# Altium integrated library TI_Logic_Universal_Bus_Function.IntLib: 113 symbols (part 1 of 5)
Pins are listed as number, name and electrical type; pins without a type are passive.

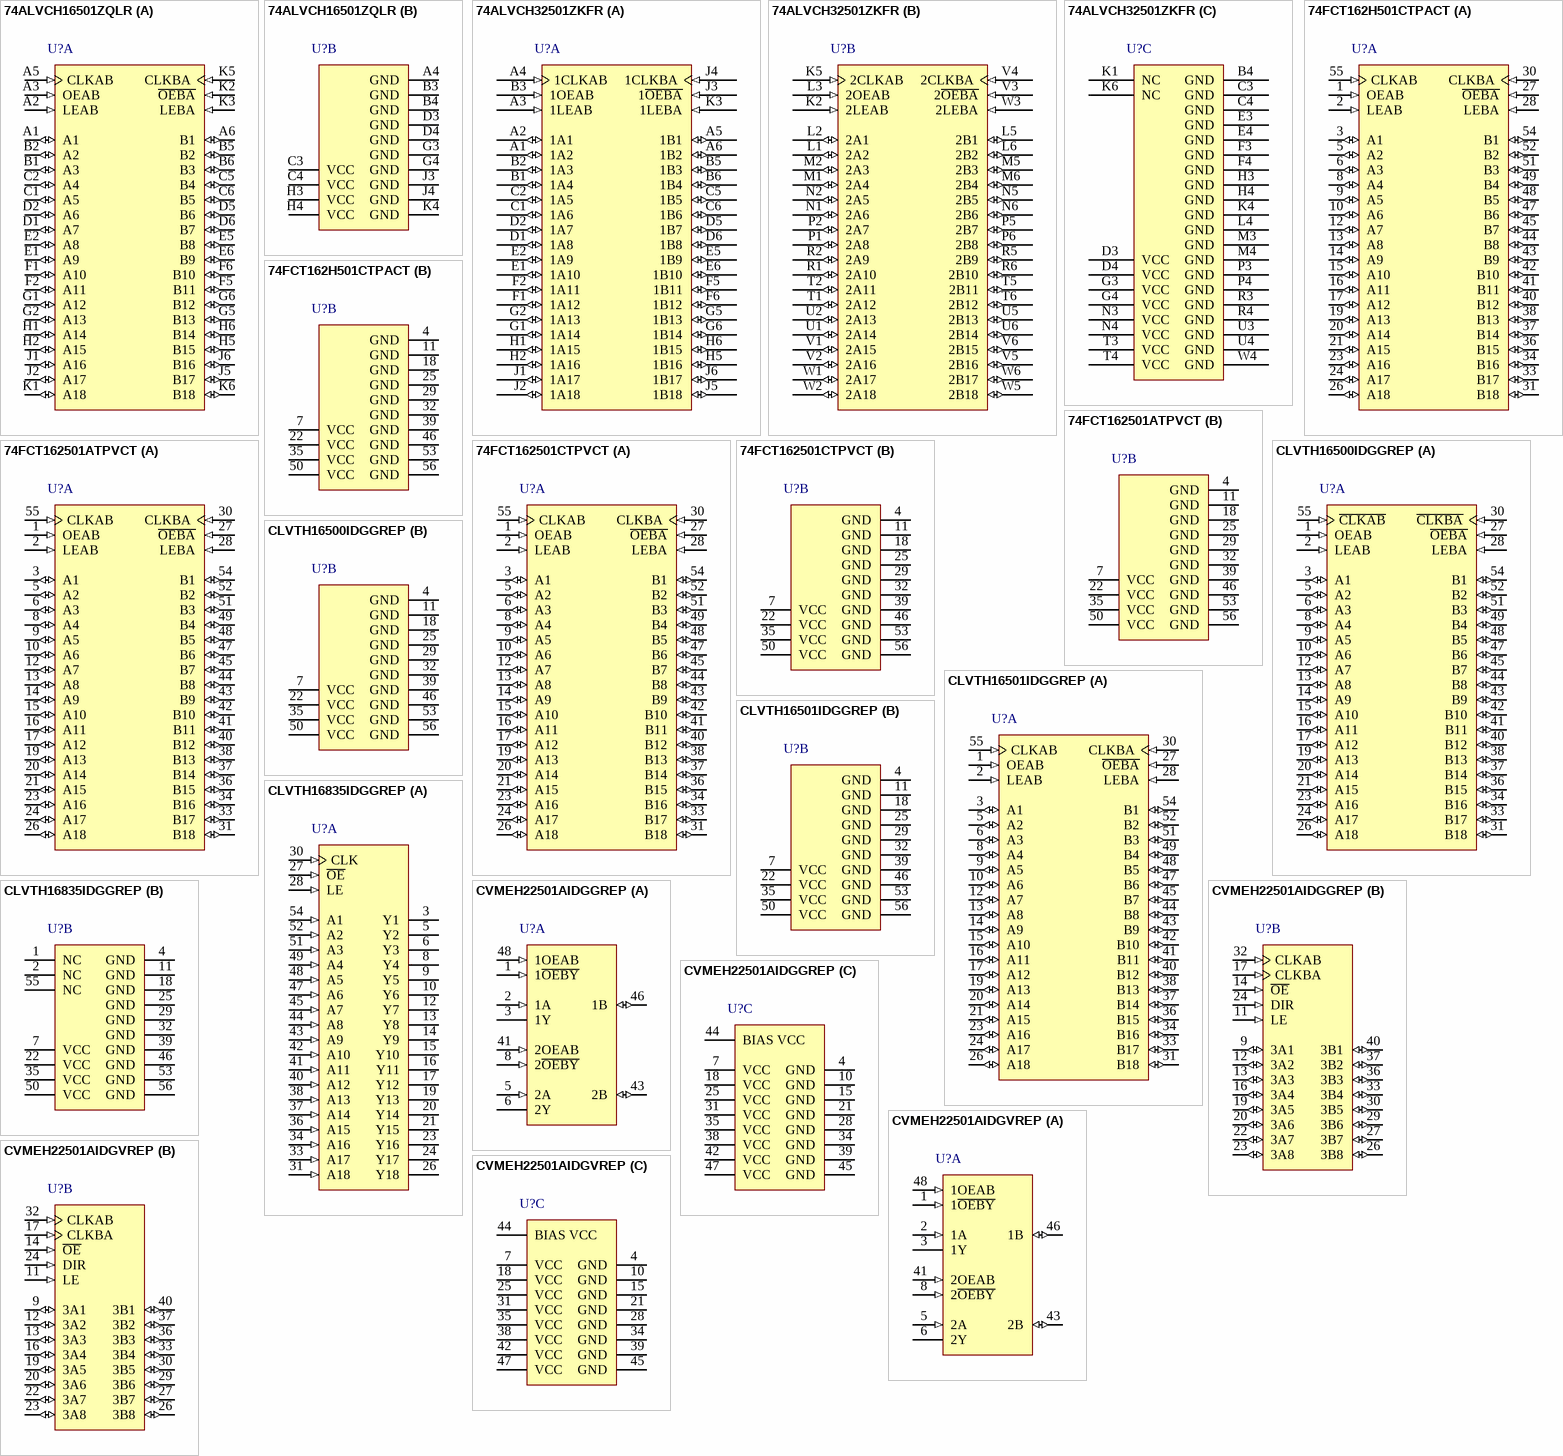
[diagram p0: symbols 74ALVCH16501ZQLR to CVMEH22501AIDGVREP]

## 74ALVCH16501ZQLR
designator U?
18-Bit Universal Bus Transceiver With 3-State Outputs, ZQL0056A, LARGE T&R; Generic Part Number: SN74ALVCH16501; Manufacturer: Texas Instruments; PartNumber: 74ALVCH16501ZQLR; VCC(Min)(V): 1.65; VCC(Max)(V): 3.6; Output Type: LVTTL; Logic: True; Static Current: 0.04; Bits(#): 18; F @ Nom Voltage(Max)(Mhz): 100; Rating: Catalog; Technology Family: ALVC; Voltage(Nom)(V): 3.3; Schmitt Trigger: No; Output Drive (IOL/IOH)(Max)(mA): -24/24; tpd @ Nom Voltage(Max)(ns): 4.9; DatasheetVersion: SCES024J; PackageReference: ZQL0056A; Supplier 1: Mouser; Supplier Part Number 1: 595-74ALVCH16501ZQLR; Supplier 2: Digi-Key; Supplier Part Number 2: 74ALVCH16501ZQLR-ND; ICC @ Nom Voltage(Max)(mA): 0.04; Input Type: LVTTL; Operating Temperature Range(C): -40 to 85; ComponentLink1Description: Manufacturer URL; ComponentLink1URL: http://www.ti.com/; ComponentLink2Description: Datasheet; ComponentLink2URL: http://www.ti.com/lit/ds/symlink/sn74alvch16501.pdf
footprint ZQL0056A (BGA, 56-Balls, Body 7x4.5mm, Pitch 0.65mm)
part A pins: A1 (io), A2 LEAB (in), A3 OEAB (in), A5 CLKAB (in), A6 B1 (io), B1 A3 (io), B2 A2 (io), B5 B2 (io), B6 B3 (io), C1 A5 (io), C2 A4 (io), C5 B4 (io), C6 B5 (io), D1 A7 (io), D2 A6 (io), D5 B6 (io), D6 B7 (io), E1 A9 (io), E2 A8 (io), E5 B8 (io), E6 B9 (io), F1 A10 (io), F2 A11 (io), F5 B11 (io), F6 B10 (io), G1 A12 (io), G2 A13 (io), G5 B13 (io), G6 B12 (io), H1 A14 (io), H2 A15 (io), H5 B15 (io), H6 B14 (io), J1 A16 (io), J2 A17 (io), J5 B17 (io), J6 B16 (io), K1 A18 (io), K2 ~{OEBA} (in), K3 LEBA (in), K5 CLKBA (in), K6 B18 (io)
part B pins: A4 GND (power), B3 GND (power), B4 GND (power), C3 VCC (power), C4 VCC (power), D3 GND (power), D4 GND (power), G3 GND (power), G4 GND (power), H3 VCC (power), H4 VCC (power), J3 GND (power), J4 GND (power), K4 GND (power)

## 74ALVCH32501ZKFR
designator U?
36-Bit Universal Bus Transceiver with 3-State Outputs, ZKF0114A, LARGE T&R; Generic Part Number: SN74ALVCH32501; Manufacturer: Texas Instruments; PartNumber: 74ALVCH32501ZKFR; VCC(Min)(V): 1.65; VCC(Max)(V): 3.6; Output Type: LVTTL; ICC @ Nom Voltage(Max)(mA): 0.08; Bits(#): 32; F @ Nom Voltage(Max)(Mhz): 100; Rating: Catalog; Technology Family: ALVC; Voltage(Nom)(V): 3.3; Schmitt Trigger: No; Output Drive (IOL/IOH)(Max)(mA): -24/24; tpd @ Nom Voltage(Max)(ns): 4.9; DatasheetVersion: SCES144G; PackageReference: ZKF0114A; Supplier 1: Mouser; Supplier Part Number 1: 595-74ALVCH32501ZKFR; Supplier 2: Digi-Key; Supplier Part Number 2: 296-19762-2-ND; Supplier 3: Digi-Key; Supplier Part Number 3: 296-19762-1-ND; Supplier 4: Digi-Key; Supplier Part Number 4: 296-19762-6-ND; Input Type: LVTTL; Operating Temperature Range(C): -40 to 85; ComponentLink1Description: Manufacturer URL; ComponentLink1URL: http://www.ti.com/; ComponentLink2Description: Datasheet; ComponentLink2URL: http://www.ti.com/lit/ds/symlink/sn74alvch32501.pdf
footprint ZKF0114A (BGA, 114-Balls, Body 8x5.5mm, Pitch 0.8mm)
part A pins: A1 1A2 (io), A2 1A1 (io), A3 1LEAB (in), A4 1CLKAB (in), A5 1B1 (io), A6 1B2 (io), B1 1A4 (io), B2 1A3 (io), B3 1OEAB (in), B5 1B3 (io), B6 1B4 (io), C1 1A6 (io), C2 1A5 (io), C5 1B5 (io), C6 1B6 (io), D1 1A8 (io), D2 1A7 (io), D5 1B7 (io), D6 1B8 (io), E1 1A10 (io), E2 1A9 (io), E5 1B9 (io), E6 1B10 (io), F1 1A12 (io), F2 1A11 (io), F5 1B11 (io), F6 1B12 (io), G1 1A14 (io), G2 1A13 (io), G5 1B13 (io), G6 1B14 (io), H1 1A15 (io), H2 1A16 (io), H5 1B16 (io), H6 1B15 (io), J1 1A17 (io), J2 1A18 (io), J3 1~{OEBA} (in), J4 1CLKBA (in), J5 1B18 (io), J6 1B17 (io), K3 1LEBA (in)
part B pins: K2 2LEAB (in), K5 2CLKAB (in), L1 2A2 (io), L2 2A1 (io), L3 2OEAB (in), L5 2B1 (io), L6 2B2 (io), M1 2A4 (io), M2 2A3 (io), M5 2B3 (io), M6 2B4 (io), N1 2A6 (io), N2 2A5 (io), N5 2B5 (io), N6 2B6 (io), P1 2A8 (io), P2 2A7 (io), P5 2B7 (io), P6 2B8 (io), R1 2A10 (io), R2 2A9 (io), R5 2B9 (io), R6 2B10 (io), T1 2A12 (io), T2 2A11 (io), T5 2B11 (io), T6 2B12 (io), U1 2A14 (io), U2 2A13 (io), U5 2B13 (io), U6 2B14 (io), V1 2A15 (io), V2 2A16 (io), V3 2~{OEBA} (in), V4 2CLKBA (in), V5 2B16 (io), V6 2B15 (io), W1 2A17 (io), W2 2A18 (io), W3 2LEBA (in), W5 2B18 (io), W6 2B17 (io)
part C pins: B4 GND (power), C3 GND (power), C4 GND (power), D3 VCC (power), D4 VCC (power), E3 GND (power), E4 GND (power), F3 GND (power), F4 GND (power), G3 VCC (power), G4 VCC (power), H3 GND (power), H4 GND (power), K1 NC, K4 GND (power), K6 NC, L4 GND (power), M3 GND (power), M4 GND (power), N3 VCC (power), N4 VCC (power), P3 GND (power), P4 GND (power), R3 GND (power), R4 GND (power), T3 VCC (power), T4 VCC (power), U3 GND (power), U4 GND (power), W4 GND (power)

## 74FCT162H501CTPACT
designator U?
18-Bit Universal Bus Transceivers with Bus-Hold and 3-State Outputs, DGG0056A, LARGE T&R; Generic Part Number: CY74FCT162H501T; Manufacturer: Texas Instruments; PartNumber: 74FCT162H501CTPACT; VCC(Min)(V): 4.5; VCC(Max)(V): 5.5; Output Type: TTL; ICC @ Nom Voltage(Max)(mA): 0.5; Bits(#): 18; F @ Nom Voltage(Max)(Mhz): 150; Rating: Catalog; Technology Family: FCT; Voltage(Nom)(V): 5; Schmitt Trigger: No; Output Drive (IOL/IOH)(Max)(mA): -24/24,-32/64; tpd @ Nom Voltage(Max)(ns): 4.6; DatasheetVersion: SCCS057B; PackageReference: DGG0056A; Supplier 1: Mouser; Supplier Part Number 1: 595-FCT162H501CTPACT; Supplier 2: Digi-Key; Supplier Part Number 2: 296-23195-2-ND; Supplier 3: Digi-Key; Supplier Part Number 3: 296-23195-1-ND; Supplier 4: Digi-Key; Supplier Part Number 4: 296-23195-6-ND; Input Type: TTL; Operating Temperature Range(C): -40 to 85; ComponentLink1Description: Manufacturer URL; ComponentLink1URL: http://www.ti.com/; ComponentLink2Description: Datasheet; ComponentLink2URL: http://www.ti.com/lit/ds/symlink/cy74fct162h501t.pdf
footprint DGG0056A_N (TSSOP, 56-Leads, Body 14.1x6.2mm, Pitch 0.5mm, IPC Medium Density)
footprint DGG0056A_M (TSSOP, 56-Leads, Body 14.1x6.2mm, Pitch 0.5mm, IPC Low Density)
footprint DGG0056A_L (TSSOP, 56-Leads, Body 14.1x6.2mm, Pitch 0.5mm, IPC High Density)
part A pins: 1 OEAB (in), 2 LEAB (in), 3 A1 (io), 5 A2 (io), 6 A3 (io), 8 A4 (io), 9 A5 (io), 10 A6 (io), 12 A7 (io), 13 A8 (io), 14 A9 (io), 15 A10 (io), 16 A11 (io), 17 A12 (io), 19 A13 (io), 20 A14 (io), 21 A15 (io), 23 A16 (io), 24 A17 (io), 26 A18 (io), 27 ~{OEBA} (in), 28 LEBA (in), 30 CLKBA (in), 31 B18 (io), 33 B17 (io), 34 B16 (io), 36 B15 (io), 37 B14 (io), 38 B13 (io), 40 B12 (io), 41 B11 (io), 42 B10 (io), 43 B9 (io), 44 B8 (io), 45 B7 (io), 47 B6 (io), 48 B5 (io), 49 B4 (io), 51 B3 (io), 52 B2 (io), 54 B1 (io), 55 CLKAB (in)
part B pins: 4 GND (power), 7 VCC (power), 11 GND (power), 18 GND (power), 22 VCC (power), 25 GND (power), 29 GND (power), 32 GND (power), 35 VCC (power), 39 GND (power), 46 GND (power), 50 VCC (power), 53 GND (power), 56 GND (power)

## 74FCT162501ATPVCT
designator U?
18-Bit Universal Bus Transceivers with 3-State Outputs, DL0056A, LARGE T&R; Generic Part Number: CY74FCT162501T; Manufacturer: Texas Instruments; PartNumber: 74FCT162501ATPVCT; DatasheetVersion: SCCS057B; PackageReference: DL0056A; Supplier 1: Mouser; Supplier Part Number 1: 595-74FT162501ATPVCT; Supplier 2: Digi-Key; Supplier Part Number 2: 296-14460-2-ND; Supplier 3: Digi-Key; Supplier Part Number 3: 296-14460-1-ND; Supplier 4: Digi-Key; Supplier Part Number 4: 296-14460-6-ND; Mounting Technology: Surface Mount; ComponentLink1Description: Manufacturer URL; ComponentLink1URL: http://www.ti.com/; ComponentLink2Description: Datasheet; ComponentLink2URL: http://www.ti.com/lit/ds/symlink/cy74fct162501t.pdf
footprint DL0056A_N (SOP, 56-Leads, Body 7.6x18.5mm, Pitch 0.635mm, IPC Medium Density)
footprint DL0056A_M (SOP, 56-Leads, Body 7.6x18.5mm, Pitch 0.635mm, IPC Low Density)
footprint DL0056A_L (SOP, 56-Leads, Body 7.6x18.5mm, Pitch 0.635mm, IPC High Density)
part A pins: 1 OEAB (in), 2 LEAB (in), 3 A1 (io), 5 A2 (io), 6 A3 (io), 8 A4 (io), 9 A5 (io), 10 A6 (io), 12 A7 (io), 13 A8 (io), 14 A9 (io), 15 A10 (io), 16 A11 (io), 17 A12 (io), 19 A13 (io), 20 A14 (io), 21 A15 (io), 23 A16 (io), 24 A17 (io), 26 A18 (io), 27 ~{OEBA} (in), 28 LEBA (in), 30 CLKBA (in), 31 B18 (io), 33 B17 (io), 34 B16 (io), 36 B15 (io), 37 B14 (io), 38 B13 (io), 40 B12 (io), 41 B11 (io), 42 B10 (io), 43 B9 (io), 44 B8 (io), 45 B7 (io), 47 B6 (io), 48 B5 (io), 49 B4 (io), 51 B3 (io), 52 B2 (io), 54 B1 (io), 55 CLKAB (in)
part B pins: 4 GND (power), 7 VCC (power), 11 GND (power), 18 GND (power), 22 VCC (power), 25 GND (power), 29 GND (power), 32 GND (power), 35 VCC (power), 39 GND (power), 46 GND (power), 50 VCC (power), 53 GND (power), 56 GND (power)

## 74FCT162501CTPVCT
designator U?
18-Bit Universal Bus Transceivers with 3-State Outputs, DL0056A, LARGE T&R; Generic Part Number: CY74FCT162501T; Manufacturer: Texas Instruments; PartNumber: 74FCT162501CTPVCT; VCC(Min)(V): 4.5; VCC(Max)(V): 5.5; Output Type: TTL; ICC @ Nom Voltage(Max)(mA): 0.5; Bits(#): 18; F @ Nom Voltage(Max)(Mhz): 150; Rating: Catalog; Technology Family: FCT; Voltage(Nom)(V): 5; Schmitt Trigger: No; Output Drive (IOL/IOH)(Max)(mA): -24/24; tpd @ Nom Voltage(Max)(ns): 4.6; DatasheetVersion: SCCS057B; PackageReference: DL0056A; Supplier 1: Mouser; Supplier Part Number 1: 595-74FT162501CTPVCT; Supplier 2: Digi-Key; Supplier Part Number 2: 296-12620-2-ND; Supplier 3: Digi-Key; Supplier Part Number 3: 296-12620-1-ND; Input Type: TTL; Operating Temperature Range(C): -40 to 85; ComponentLink1Description: Manufacturer URL; ComponentLink1URL: http://www.ti.com/; ComponentLink2Description: Datasheet; ComponentLink2URL: http://www.ti.com/lit/ds/symlink/cy74fct162501t.pdf
footprint DL0056A_N (SOP, 56-Leads, Body 7.6x18.5mm, Pitch 0.635mm, IPC Medium Density)
footprint DL0056A_M (SOP, 56-Leads, Body 7.6x18.5mm, Pitch 0.635mm, IPC Low Density)
footprint DL0056A_L (SOP, 56-Leads, Body 7.6x18.5mm, Pitch 0.635mm, IPC High Density)
part A pins: 1 OEAB (in), 2 LEAB (in), 3 A1 (io), 5 A2 (io), 6 A3 (io), 8 A4 (io), 9 A5 (io), 10 A6 (io), 12 A7 (io), 13 A8 (io), 14 A9 (io), 15 A10 (io), 16 A11 (io), 17 A12 (io), 19 A13 (io), 20 A14 (io), 21 A15 (io), 23 A16 (io), 24 A17 (io), 26 A18 (io), 27 ~{OEBA} (in), 28 LEBA (in), 30 CLKBA (in), 31 B18 (io), 33 B17 (io), 34 B16 (io), 36 B15 (io), 37 B14 (io), 38 B13 (io), 40 B12 (io), 41 B11 (io), 42 B10 (io), 43 B9 (io), 44 B8 (io), 45 B7 (io), 47 B6 (io), 48 B5 (io), 49 B4 (io), 51 B3 (io), 52 B2 (io), 54 B1 (io), 55 CLKAB (in)
part B pins: 4 GND (power), 7 VCC (power), 11 GND (power), 18 GND (power), 22 VCC (power), 25 GND (power), 29 GND (power), 32 GND (power), 35 VCC (power), 39 GND (power), 46 GND (power), 50 VCC (power), 53 GND (power), 56 GND (power)

## CLVTH16500IDGGREP
designator U?
Enhanced Product 3.3-V Abt 18-Bit Universal Bus Transceivers With 3-State Outputs, DGG0056A, LARGE T&R; Generic Part Number: SN74LVTH16500-EP; Manufacturer: Texas Instruments; PartNumber: CLVTH16500IDGGREP; VCC(Min)(V): 2.7; VCC(Max)(V): 3.6; ICC @ Nom Voltage(Max)(mA): 5; Bits(#): 16; F @ Nom Voltage(Max)(Mhz): 160; Rating: HiRel Enhanced Product; Technology Family: LVT; Voltage(Nom)(V): 3.3; Schmitt Trigger: No; DatasheetVersion: SCBS783; PackageReference: DGG0056A; Supplier 1: Mouser; Supplier Part Number 1: 595-CVTH16500IDGGREP; Supplier 2: Digi-Key; Supplier Part Number 2: 296-22137-2-ND; Supplier 3: Digi-Key; Supplier Part Number 3: 296-22137-1-ND; Supplier 4: Digi-Key; Supplier Part Number 4: 296-22137-6-ND; Operating Temperature Range(C): -40 to 85; ComponentLink1Description: Manufacturer URL; ComponentLink1URL: http://www.ti.com/; ComponentLink2Description: Datasheet; ComponentLink2URL: http://www.ti.com/lit/ds/symlink/sn74lvth16500-ep.pdf
footprint DGG0056A_N (TSSOP, 56-Leads, Body 14.1x6.2mm, Pitch 0.5mm, IPC Medium Density)
footprint DGG0056A_M (TSSOP, 56-Leads, Body 14.1x6.2mm, Pitch 0.5mm, IPC Low Density)
footprint DGG0056A_L (TSSOP, 56-Leads, Body 14.1x6.2mm, Pitch 0.5mm, IPC High Density)
part A pins: 1 OEAB (in), 2 LEAB (in), 3 A1 (io), 5 A2 (io), 6 A3 (io), 8 A4 (io), 9 A5 (io), 10 A6 (io), 12 A7 (io), 13 A8 (io), 14 A9 (io), 15 A10 (io), 16 A11 (io), 17 A12 (io), 19 A13 (io), 20 A14 (io), 21 A15 (io), 23 A16 (io), 24 A17 (io), 26 A18 (io), 27 ~{OEBA} (in), 28 LEBA (in), 30 ~{CLKBA} (in), 31 B18 (io), 33 B17 (io), 34 B16 (io), 36 B15 (io), 37 B14 (io), 38 B13 (io), 40 B12 (io), 41 B11 (io), 42 B10 (io), 43 B9 (io), 44 B8 (io), 45 B7 (io), 47 B6 (io), 48 B5 (io), 49 B4 (io), 51 B3 (io), 52 B2 (io), 54 B1 (io), 55 ~{CLKAB} (in)
part B pins: 4 GND (power), 7 VCC (power), 11 GND (power), 18 GND (power), 22 VCC (power), 25 GND (power), 29 GND (power), 32 GND (power), 35 VCC (power), 39 GND (power), 46 GND (power), 50 VCC (power), 53 GND (power), 56 GND (power)

## CLVTH16501IDGGREP
designator U?
Enhanced Product 3.3-V Abt 18-Bit Universal Bus Transceivers With 3-State Outputs, DGG0056A, LARGE T&R; Generic Part Number: SN74LVTH16501-EP; Manufacturer: Texas Instruments; PartNumber: CLVTH16501IDGGREP; VCC(Min)(V): 2.7; VCC(Max)(V): 3.6; ICC @ Nom Voltage(Max)(mA): 5; Bits(#): 16; F @ Nom Voltage(Max)(Mhz): 160; Rating: HiRel Enhanced Product; Technology Family: LVT; Voltage(Nom)(V): 3.3; Schmitt Trigger: No; DatasheetVersion: SCBS784; PackageReference: DGG0056A; Supplier 1: Mouser; Supplier Part Number 1: 595-CVTH16501IDGGREP; Supplier 2: Digi-Key; Supplier Part Number 2: 296-22138-2-ND; Supplier 3: Digi-Key; Supplier Part Number 3: 296-22138-1-ND; Supplier 4: Digi-Key; Supplier Part Number 4: 296-22138-6-ND; Operating Temperature Range(C): -40 to 85; ComponentLink1Description: Manufacturer URL; ComponentLink1URL: http://www.ti.com/; ComponentLink2Description: Datasheet; ComponentLink2URL: http://www.ti.com/lit/ds/symlink/sn74lvth16501-ep.pdf
footprint DGG0056A_N (TSSOP, 56-Leads, Body 14.1x6.2mm, Pitch 0.5mm, IPC Medium Density)
footprint DGG0056A_M (TSSOP, 56-Leads, Body 14.1x6.2mm, Pitch 0.5mm, IPC Low Density)
footprint DGG0056A_L (TSSOP, 56-Leads, Body 14.1x6.2mm, Pitch 0.5mm, IPC High Density)
part A pins: 1 OEAB (in), 2 LEAB (in), 3 A1 (io), 5 A2 (io), 6 A3 (io), 8 A4 (io), 9 A5 (io), 10 A6 (io), 12 A7 (io), 13 A8 (io), 14 A9 (io), 15 A10 (io), 16 A11 (io), 17 A12 (io), 19 A13 (io), 20 A14 (io), 21 A15 (io), 23 A16 (io), 24 A17 (io), 26 A18 (io), 27 ~{OEBA} (in), 28 LEBA (in), 30 CLKBA (in), 31 B18 (io), 33 B17 (io), 34 B16 (io), 36 B15 (io), 37 B14 (io), 38 B13 (io), 40 B12 (io), 41 B11 (io), 42 B10 (io), 43 B9 (io), 44 B8 (io), 45 B7 (io), 47 B6 (io), 48 B5 (io), 49 B4 (io), 51 B3 (io), 52 B2 (io), 54 B1 (io), 55 CLKAB (in)
part B pins: 4 GND (power), 7 VCC (power), 11 GND (power), 18 GND (power), 22 VCC (power), 25 GND (power), 29 GND (power), 32 GND (power), 35 VCC (power), 39 GND (power), 46 GND (power), 50 VCC (power), 53 GND (power), 56 GND (power)

## CLVTH16835IDGGREP
designator U?
Enhanced Product 3.3-V Abt 18-Bit Universal Bus Drivers With 3-State Outputs, DGG0056A, LARGE T&R; Generic Part Number: SN74LVTH16835-EP; Manufacturer: Texas Instruments; PartNumber: CLVTH16835IDGGREP; VCC(Min)(V): 2.7; VCC(Max)(V): 3.6; ICC @ Nom Voltage(Max)(mA): 5; F @ Nom Voltage(Max)(Mhz): 160; Rating: HiRel Enhanced Product; Technology Family: LVT; Voltage(Nom)(V): 3.3; DatasheetVersion: SCBS788; PackageReference: DGG0056A; Operating Temperature Range(C): -40 to 85; Code_JEDEC: MO-153; ComponentLink1Description: Manufacturer URL; ComponentLink1URL: http://www.ti.com/; ComponentLink2Description: Datasheet; ComponentLink2URL: http://www.ti.com/lit/ds/symlink/sn74lvth16835-ep.pdf; ComponentLink3Description: Package Specification; ComponentLink3URL: http://www.ti.com/lit/ml/mtss003d/mtss003d.pdf
footprint DGG0056A_N (TSSOP, 56-Leads, Body 14.1x6.2mm, Pitch 0.5mm, IPC Medium Density)
footprint DGG0056A_M (TSSOP, 56-Leads, Body 14.1x6.2mm, Pitch 0.5mm, IPC Low Density)
footprint DGG0056A_L (TSSOP, 56-Leads, Body 14.1x6.2mm, Pitch 0.5mm, IPC High Density)
part A pins: 3 Y1 (hiz), 5 Y2 (hiz), 6 Y3 (hiz), 8 Y4 (hiz), 9 Y5 (hiz), 10 Y6 (hiz), 12 Y7 (hiz), 13 Y8 (hiz), 14 Y9 (hiz), 15 Y10 (hiz), 16 Y11 (hiz), 17 Y12 (hiz), 19 Y13 (hiz), 20 Y14 (hiz), 21 Y15 (hiz), 23 Y16 (hiz), 24 Y17 (hiz), 26 Y18 (hiz), 27 ~{OE} (in), 28 LE (in), 30 CLK (in), 31 A18 (in), 33 A17 (in), 34 A16 (in), 36 A15 (in), 37 A14 (in), 38 A13 (in), 40 A12 (in), 41 A11 (in), 42 A10 (in), 43 A9 (in), 44 A8 (in), 45 A7 (in), 47 A6 (in), 48 A5 (in), 49 A4 (in), 51 A3 (in), 52 A2 (in), 54 A1 (in)
part B pins: 1 NC, 2 NC, 4 GND (power), 7 VCC (power), 11 GND (power), 18 GND (power), 22 VCC (power), 25 GND (power), 29 GND (power), 32 GND (power), 35 VCC (power), 39 GND (power), 46 GND (power), 50 VCC (power), 53 GND (power), 55 NC, 56 GND (power)

## CVMEH22501AIDGGREP
designator U?
Enhanced Product 8-Bit Universal Bus Transceiver And Two 1-Bit Bus Transceivers, DGG0048A, LARGE T&R; Generic Part Number: SN74VMEH22501A-EP; Manufacturer: Texas Instruments; PartNumber: CVMEH22501AIDGGREP; VCC(Min)(V): 3.15; VCC(Max)(V): 3.45; Output Type: LVTTL; Logic: True; Static Current: 30; Bits(#): 8; Rating: HiRel Enhanced Product; Technology Family: VME; Voltage(Nom)(V): 3.3; Schmitt Trigger: No; Output Drive (IOL/IOH)(Max)(mA): -12/12; tpd @ Nom Voltage(Max)(ns): 14.5; DatasheetVersion: SCES625; PackageReference: DGG0048A; Supplier 1: Mouser; Supplier Part Number 1: 595-MEH22501AIDGGREP; Supplier 2: Digi-Key; Supplier Part Number 2: 296-22148-2-ND; Supplier 3: Digi-Key; Supplier Part Number 3: 296-22148-1-ND; Supplier 4: Digi-Key; Supplier Part Number 4: 296-22148-6-ND; ICC @ Nom Voltage(Max)(mA): 30; Input Type: LVTTL; Operating Temperature Range(C): -40 to 85; ComponentLink1Description: Manufacturer URL; ComponentLink1URL: http://www.ti.com/; ComponentLink2Description: Datasheet; ComponentLink2URL: http://www.ti.com/lit/ds/symlink/sn74vmeh22501a-ep.pdf
footprint DGG0048A_N (TSSOP, 48-Leads, Body 12.6x6.2mm, Pitch 0.5mm, IPC Medium Density)
footprint DGG0048A_M (TSSOP, 48-Leads, Body 12.6x6.2mm, Pitch 0.5mm, IPC Low Density)
footprint DGG0048A_L (TSSOP, 48-Leads, Body 12.6x6.2mm, Pitch 0.5mm, IPC High Density)
part A pins: 1 1~{OEBY} (in), 2 1A (in), 3 1Y (hiz), 5 2A (in), 6 2Y (hiz), 8 2~{OEBY} (in), 41 2OEAB (in), 43 2B (io), 46 1B (io), 48 1OEAB (in)
part B pins: 9 3A1 (io), 11 LE (in), 12 3A2 (io), 13 3A3 (io), 14 ~{OE} (in), 16 3A4 (io), 17 CLKBA (in), 19 3A5 (io), 20 3A6 (io), 22 3A7 (io), 23 3A8 (io), 24 DIR (in), 26 3B8 (io), 27 3B7 (io), 29 3B6 (io), 30 3B5 (io), 32 CLKAB (in), 33 3B4 (io), 36 3B3 (io), 37 3B2 (io), 40 3B1 (io)
part C pins: 4 GND (power), 7 VCC (power), 10 GND (power), 15 GND (power), 18 VCC (power), 21 GND (power), 25 VCC (power), 28 GND (power), 31 VCC (power), 34 GND (power), 35 VCC (power), 38 VCC (power), 39 GND (power), 42 VCC (power), 44 BIAS VCC (power), 45 GND (power), 47 VCC (power)

## CVMEH22501AIDGVREP
designator U?
Enhanced Product 8-Bit Universal Bus Transceiver And Two 1-Bit Bus Transceivers, DGV0048A, LARGE T&R; Generic Part Number: SN74VMEH22501A-EP; Manufacturer: Texas Instruments; PartNumber: CVMEH22501AIDGVREP; VCC(Min)(V): 3.15; VCC(Max)(V): 3.45; Output Type: LVTTL; Logic: True; Static Current: 30; Bits(#): 8; Rating: HiRel Enhanced Product; Technology Family: VME; Voltage(Nom)(V): 3.3; Schmitt Trigger: No; Output Drive (IOL/IOH)(Max)(mA): -12/12; tpd @ Nom Voltage(Max)(ns): 14.5; DatasheetVersion: SCES625; PackageReference: DGV0048A; Supplier 1: Mouser; Supplier Part Number 1: 595-MEH22501AIDGVREP; Supplier 2: Digi-Key; Supplier Part Number 2: 296-21330-2-ND; Supplier 3: Digi-Key; Supplier Part Number 3: 296-21330-1-ND; Supplier 4: Digi-Key; Supplier Part Number 4: 296-21330-6-ND; ICC @ Nom Voltage(Max)(mA): 30; Input Type: LVTTL; Operating Temperature Range(C): -40 to 85; ComponentLink1Description: Manufacturer URL; ComponentLink1URL: http://www.ti.com/; ComponentLink2Description: Datasheet; ComponentLink2URL: http://www.ti.com/lit/ds/symlink/sn74vmeh22501a-ep.pdf
footprint DGV0048A_N (SOP, 48-Leads, Body 4.5x9.8mm, Pitch 0.4mm, IPC Medium Density)
footprint DGV0048A_M (SOP, 48-Leads, Body 4.5x9.8mm, Pitch 0.4mm, IPC Low Density)
footprint DGV0048A_L (SOP, 48-Leads, Body 4.5x9.8mm, Pitch 0.4mm, IPC High Density)
part A pins: 1 1~{OEBY} (in), 2 1A (in), 3 1Y (hiz), 5 2A (in), 6 2Y (hiz), 8 2~{OEBY} (in), 41 2OEAB (in), 43 2B (io), 46 1B (io), 48 1OEAB (in)
part B pins: 9 3A1 (io), 11 LE (in), 12 3A2 (io), 13 3A3 (io), 14 ~{OE} (in), 16 3A4 (io), 17 CLKBA (in), 19 3A5 (io), 20 3A6 (io), 22 3A7 (io), 23 3A8 (io), 24 DIR (in), 26 3B8 (io), 27 3B7 (io), 29 3B6 (io), 30 3B5 (io), 32 CLKAB (in), 33 3B4 (io), 36 3B3 (io), 37 3B2 (io), 40 3B1 (io)
part C pins: 4 GND (power), 7 VCC (power), 10 GND (power), 15 GND (power), 18 VCC (power), 21 GND (power), 25 VCC (power), 28 GND (power), 31 VCC (power), 34 GND (power), 35 VCC (power), 38 VCC (power), 39 GND (power), 42 VCC (power), 44 BIAS VCC (power), 45 GND (power), 47 VCC (power)

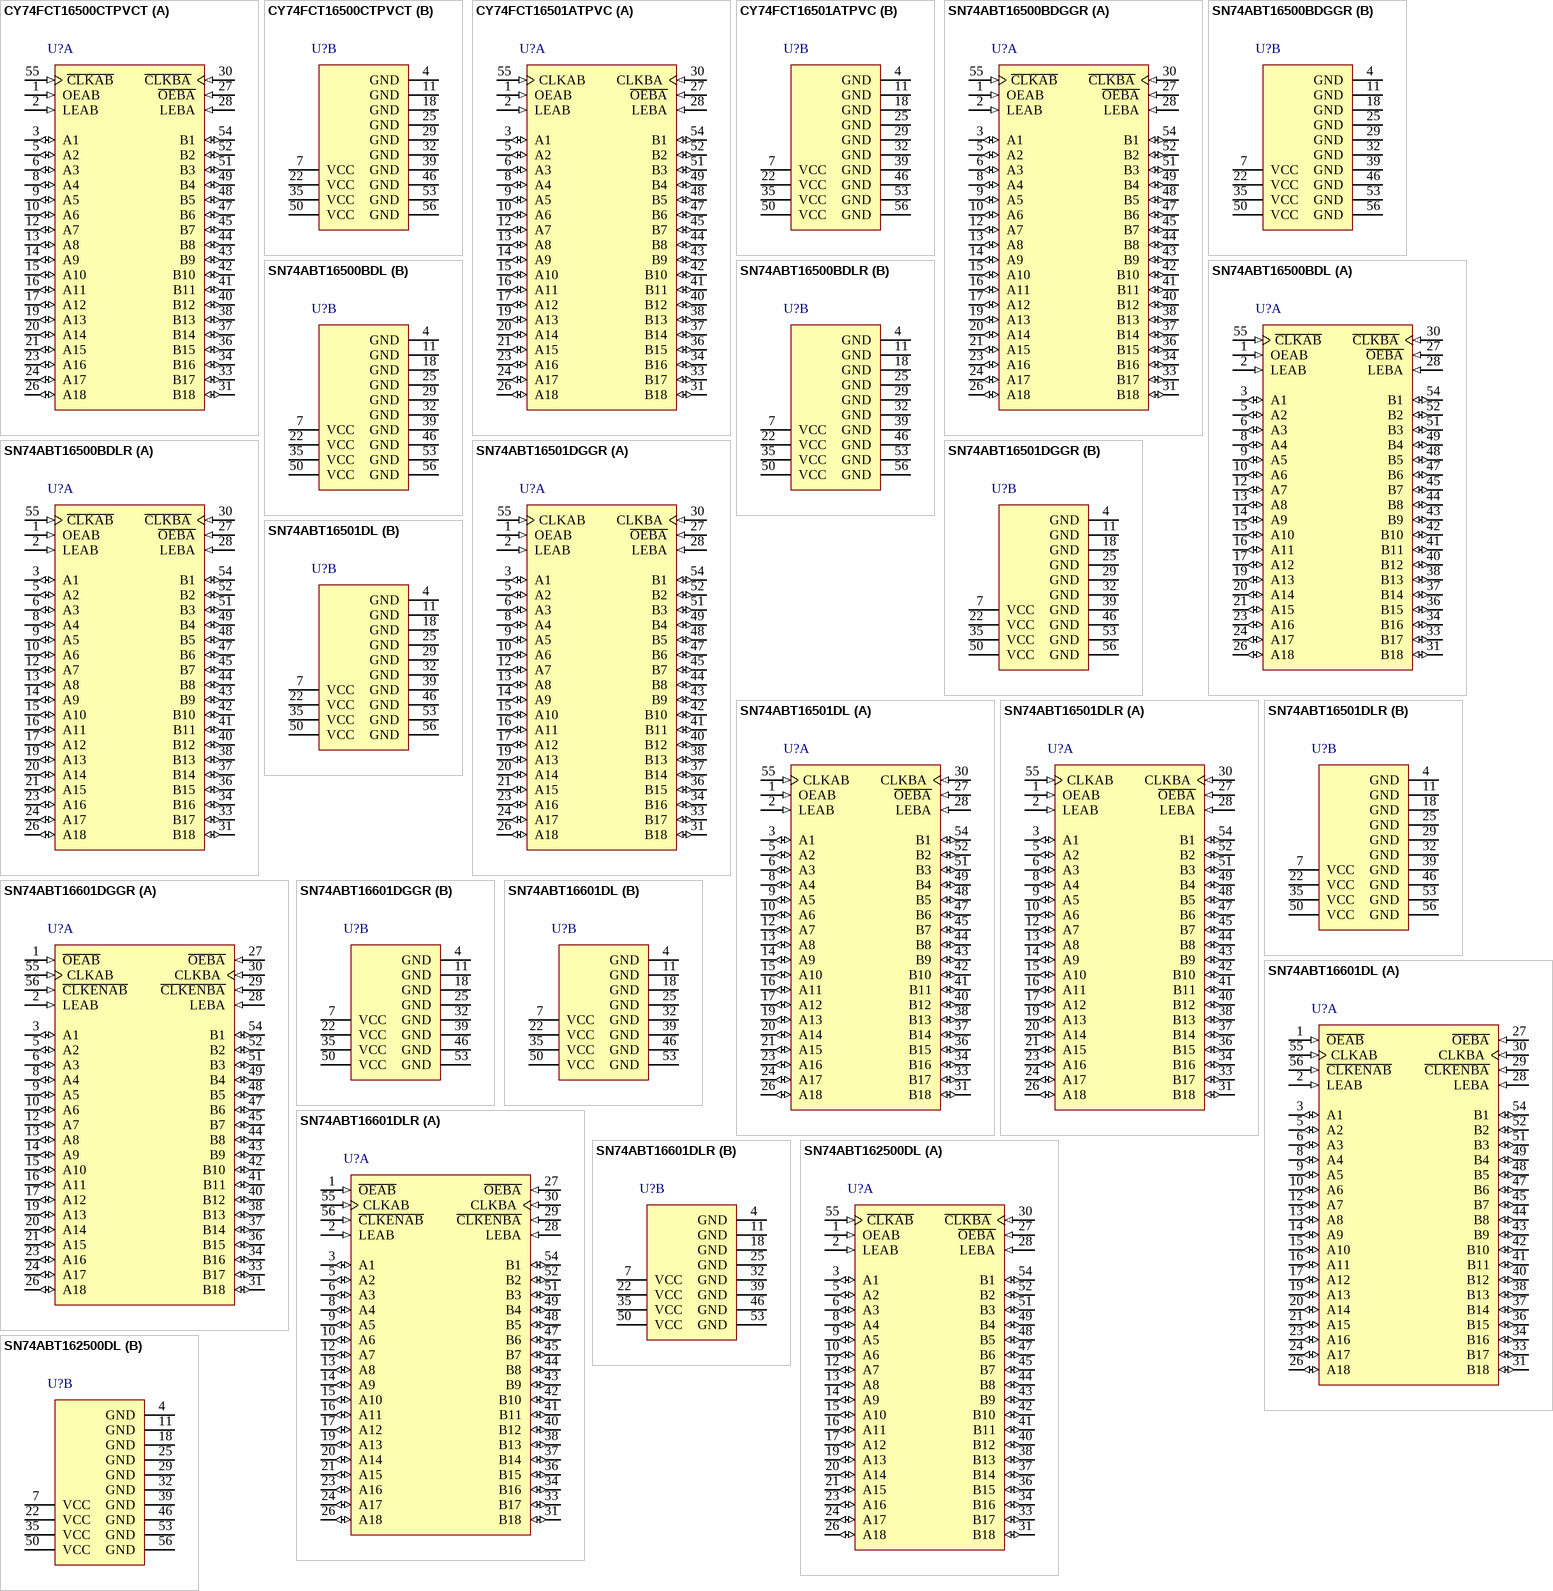
[diagram p1: symbols CY74FCT16500CTPVCT to SN74ABT162500DL]

## CY74FCT16500CTPVCT
designator U?
18-Bit Universal Bus Transceivers with 3-State Outputs, DL0056A, LARGE T&R; Generic Part Number: CY74FCT16500T; Manufacturer: Texas Instruments; PartNumber: CY74FCT16500CTPVCT; VCC(Min)(V): 4.5; VCC(Max)(V): 5.5; Output Type: TTL; ICC @ Nom Voltage(Max)(mA): 0.5; Bits(#): 18; F @ Nom Voltage(Max)(Mhz): 150; Rating: Catalog; Technology Family: FCT; Voltage(Nom)(V): 5; Schmitt Trigger: No; Output Drive (IOL/IOH)(Max)(mA): -32/64; tpd @ Nom Voltage(Max)(ns): 4.6; DatasheetVersion: SCCS056A; PackageReference: DL0056A; Supplier 1: Mouser; Supplier Part Number 1: 595-74FCT16500CTPVCT; Supplier 2: Digi-Key; Supplier Part Number 2: CY74FCT16500CTPVCT-ND; Input Type: TTL; Operating Temperature Range(C): -40 to 85; ComponentLink1Description: Manufacturer URL; ComponentLink1URL: http://www.ti.com/; ComponentLink2Description: Datasheet; ComponentLink2URL: http://www.ti.com/lit/ds/symlink/cy74fct16500t.pdf
footprint DL0056A_N (SOP, 56-Leads, Body 7.6x18.5mm, Pitch 0.635mm, IPC Medium Density)
footprint DL0056A_M (SOP, 56-Leads, Body 7.6x18.5mm, Pitch 0.635mm, IPC Low Density)
footprint DL0056A_L (SOP, 56-Leads, Body 7.6x18.5mm, Pitch 0.635mm, IPC High Density)
part A pins: 1 OEAB (in), 2 LEAB (in), 3 A1 (io), 5 A2 (io), 6 A3 (io), 8 A4 (io), 9 A5 (io), 10 A6 (io), 12 A7 (io), 13 A8 (io), 14 A9 (io), 15 A10 (io), 16 A11 (io), 17 A12 (io), 19 A13 (io), 20 A14 (io), 21 A15 (io), 23 A16 (io), 24 A17 (io), 26 A18 (io), 27 ~{OEBA} (in), 28 LEBA (in), 30 ~{CLKBA} (in), 31 B18 (io), 33 B17 (io), 34 B16 (io), 36 B15 (io), 37 B14 (io), 38 B13 (io), 40 B12 (io), 41 B11 (io), 42 B10 (io), 43 B9 (io), 44 B8 (io), 45 B7 (io), 47 B6 (io), 48 B5 (io), 49 B4 (io), 51 B3 (io), 52 B2 (io), 54 B1 (io), 55 ~{CLKAB} (in)
part B pins: 4 GND (power), 7 VCC (power), 11 GND (power), 18 GND (power), 22 VCC (power), 25 GND (power), 29 GND (power), 32 GND (power), 35 VCC (power), 39 GND (power), 46 GND (power), 50 VCC (power), 53 GND (power), 56 GND (power)

## CY74FCT16501ATPVC
designator U?
18-Bit Universal Bus Transceivers with 3-State Outputs, DL0056A, TUBE; Generic Part Number: CY74FCT16501T; Manufacturer: Texas Instruments; PartNumber: CY74FCT16501ATPVC; VCC(Min)(V): 4.5; VCC(Max)(V): 5.5; Output Type: TTL; ICC @ Nom Voltage(Max)(mA): 0.5; Bits(#): 18; F @ Nom Voltage(Max)(Mhz): 70; Rating: Catalog; Technology Family: FCT; Voltage(Nom)(V): 5; Schmitt Trigger: No; Output Drive (IOL/IOH)(Max)(mA): -32/64; tpd @ Nom Voltage(Max)(ns): 5.1; DatasheetVersion: SCCS057B; PackageReference: DL0056A; Supplier 1: Mouser; Supplier Part Number 1: 595-Y74FCT16501ATPVC; Supplier 2: Digi-Key; Supplier Part Number 2: CY74FCT16501ATPVC-ND; Input Type: TTL; Operating Temperature Range(C): -40 to 85; ComponentLink1Description: Manufacturer URL; ComponentLink1URL: http://www.ti.com/; ComponentLink2Description: Datasheet; ComponentLink2URL: http://www.ti.com/lit/ds/symlink/cy74fct16501t.pdf
footprint DL0056A_N (SOP, 56-Leads, Body 7.6x18.5mm, Pitch 0.635mm, IPC Medium Density)
footprint DL0056A_M (SOP, 56-Leads, Body 7.6x18.5mm, Pitch 0.635mm, IPC Low Density)
footprint DL0056A_L (SOP, 56-Leads, Body 7.6x18.5mm, Pitch 0.635mm, IPC High Density)
part A pins: 1 OEAB (in), 2 LEAB (in), 3 A1 (io), 5 A2 (io), 6 A3 (io), 8 A4 (io), 9 A5 (io), 10 A6 (io), 12 A7 (io), 13 A8 (io), 14 A9 (io), 15 A10 (io), 16 A11 (io), 17 A12 (io), 19 A13 (io), 20 A14 (io), 21 A15 (io), 23 A16 (io), 24 A17 (io), 26 A18 (io), 27 ~{OEBA} (in), 28 LEBA (in), 30 CLKBA (in), 31 B18 (io), 33 B17 (io), 34 B16 (io), 36 B15 (io), 37 B14 (io), 38 B13 (io), 40 B12 (io), 41 B11 (io), 42 B10 (io), 43 B9 (io), 44 B8 (io), 45 B7 (io), 47 B6 (io), 48 B5 (io), 49 B4 (io), 51 B3 (io), 52 B2 (io), 54 B1 (io), 55 CLKAB (in)
part B pins: 4 GND (power), 7 VCC (power), 11 GND (power), 18 GND (power), 22 VCC (power), 25 GND (power), 29 GND (power), 32 GND (power), 35 VCC (power), 39 GND (power), 46 GND (power), 50 VCC (power), 53 GND (power), 56 GND (power)

## SN74ABT16500BDGGR
designator U?
18-Bit Universal Bus Transceivers With 3-State Outputs, DGG0056A, LARGE T&R; Generic Part Number: SN74ABT16500B; Manufacturer: Texas Instruments; PartNumber: SN74ABT16500BDGGR; VCC(Min)(V): 4.5; VCC(Max)(V): 5.5; Output Type: TTL; Logic: True; Static Current: 19.5; ICC @ Nom Voltage(Max)(mA): 36; Bits(#): 18; F @ Nom Voltage(Max)(Mhz): 150; Rating: Catalog; Technology Family: ABT; Voltage(Nom)(V): 5; Schmitt Trigger: No; Output Drive (IOL/IOH)(Max)(mA): -32/64; tpd @ Nom Voltage(Max)(ns): 4.9; DatasheetVersion: SCBS057G; PackageReference: DGG0056A; Supplier 1: Mouser; Supplier Part Number 1: 595-74ABT16500BDGGR; Supplier 2: Digi-Key; Supplier Part Number 2: 296-3903-2-ND; Supplier 3: Digi-Key; Supplier Part Number 3: 296-3903-1-ND; Supplier 4: Digi-Key; Supplier Part Number 4: 296-3903-6-ND; Input Type: TTL; Operating Temperature Range(C): -40 to 85; ComponentLink1Description: Manufacturer URL; ComponentLink1URL: http://www.ti.com/; ComponentLink2Description: Datasheet; ComponentLink2URL: http://www.ti.com/lit/ds/symlink/sn74abt16500b.pdf
footprint DGG0056A_N (TSSOP, 56-Leads, Body 14.1x6.2mm, Pitch 0.5mm, IPC Medium Density)
footprint DGG0056A_M (TSSOP, 56-Leads, Body 14.1x6.2mm, Pitch 0.5mm, IPC Low Density)
footprint DGG0056A_L (TSSOP, 56-Leads, Body 14.1x6.2mm, Pitch 0.5mm, IPC High Density)
part A pins: 1 OEAB (in), 2 LEAB (in), 3 A1 (io), 5 A2 (io), 6 A3 (io), 8 A4 (io), 9 A5 (io), 10 A6 (io), 12 A7 (io), 13 A8 (io), 14 A9 (io), 15 A10 (io), 16 A11 (io), 17 A12 (io), 19 A13 (io), 20 A14 (io), 21 A15 (io), 23 A16 (io), 24 A17 (io), 26 A18 (io), 27 ~{OEBA} (in), 28 LEBA (in), 30 ~{CLKBA} (in), 31 B18 (io), 33 B17 (io), 34 B16 (io), 36 B15 (io), 37 B14 (io), 38 B13 (io), 40 B12 (io), 41 B11 (io), 42 B10 (io), 43 B9 (io), 44 B8 (io), 45 B7 (io), 47 B6 (io), 48 B5 (io), 49 B4 (io), 51 B3 (io), 52 B2 (io), 54 B1 (io), 55 ~{CLKAB} (in)
part B pins: 4 GND (power), 7 VCC (power), 11 GND (power), 18 GND (power), 22 VCC (power), 25 GND (power), 29 GND (power), 32 GND (power), 35 VCC (power), 39 GND (power), 46 GND (power), 50 VCC (power), 53 GND (power), 56 GND (power)

## SN74ABT16500BDL
designator U?
18-Bit Universal Bus Transceivers With 3-State Outputs, DL0056A, TUBE; Generic Part Number: SN74ABT16500B; Manufacturer: Texas Instruments; PartNumber: SN74ABT16500BDL; VCC(Min)(V): 4.5; VCC(Max)(V): 5.5; Output Type: TTL; Logic: True; Static Current: 19.5; ICC @ Nom Voltage(Max)(mA): 36; Bits(#): 18; F @ Nom Voltage(Max)(Mhz): 150; Rating: Catalog; Technology Family: ABT; Voltage(Nom)(V): 5; Schmitt Trigger: No; Output Drive (IOL/IOH)(Max)(mA): -32/64; tpd @ Nom Voltage(Max)(ns): 4.9; DatasheetVersion: SCBS057G; PackageReference: DL0056A; Supplier 1: Mouser; Supplier Part Number 1: 595-SN74ABT16500BDL; Supplier 2: Digi-Key; Supplier Part Number 2: 296-3904-5-ND; Input Type: TTL; Operating Temperature Range(C): -40 to 85; ComponentLink1Description: Manufacturer URL; ComponentLink1URL: http://www.ti.com/; ComponentLink2Description: Datasheet; ComponentLink2URL: http://www.ti.com/lit/ds/symlink/sn74abt16500b.pdf
footprint DL0056A_N (SOP, 56-Leads, Body 7.6x18.5mm, Pitch 0.635mm, IPC Medium Density)
footprint DL0056A_M (SOP, 56-Leads, Body 7.6x18.5mm, Pitch 0.635mm, IPC Low Density)
footprint DL0056A_L (SOP, 56-Leads, Body 7.6x18.5mm, Pitch 0.635mm, IPC High Density)
part A pins: 1 OEAB (in), 2 LEAB (in), 3 A1 (io), 5 A2 (io), 6 A3 (io), 8 A4 (io), 9 A5 (io), 10 A6 (io), 12 A7 (io), 13 A8 (io), 14 A9 (io), 15 A10 (io), 16 A11 (io), 17 A12 (io), 19 A13 (io), 20 A14 (io), 21 A15 (io), 23 A16 (io), 24 A17 (io), 26 A18 (io), 27 ~{OEBA} (in), 28 LEBA (in), 30 ~{CLKBA} (in), 31 B18 (io), 33 B17 (io), 34 B16 (io), 36 B15 (io), 37 B14 (io), 38 B13 (io), 40 B12 (io), 41 B11 (io), 42 B10 (io), 43 B9 (io), 44 B8 (io), 45 B7 (io), 47 B6 (io), 48 B5 (io), 49 B4 (io), 51 B3 (io), 52 B2 (io), 54 B1 (io), 55 ~{CLKAB} (in)
part B pins: 4 GND (power), 7 VCC (power), 11 GND (power), 18 GND (power), 22 VCC (power), 25 GND (power), 29 GND (power), 32 GND (power), 35 VCC (power), 39 GND (power), 46 GND (power), 50 VCC (power), 53 GND (power), 56 GND (power)

## SN74ABT16500BDLR
designator U?
18-Bit Universal Bus Transceivers With 3-State Outputs, DL0056A, LARGE T&R; Generic Part Number: SN74ABT16500B; Manufacturer: Texas Instruments; PartNumber: SN74ABT16500BDLR; VCC(Min)(V): 4.5; VCC(Max)(V): 5.5; Output Type: TTL; Logic: True; Static Current: 19.5; ICC @ Nom Voltage(Max)(mA): 36; Bits(#): 18; F @ Nom Voltage(Max)(Mhz): 150; Rating: Catalog; Technology Family: ABT; Voltage(Nom)(V): 5; Schmitt Trigger: No; Output Drive (IOL/IOH)(Max)(mA): -32/64; tpd @ Nom Voltage(Max)(ns): 4.9; DatasheetVersion: SCBS057G; PackageReference: DL0056A; Supplier 1: Mouser; Supplier Part Number 1: 595-SN74ABT16500BDLR; Supplier 2: Digi-Key; Supplier Part Number 2: 296-14654-2-ND; Supplier 3: Digi-Key; Supplier Part Number 3: 296-14654-1-ND; Supplier 4: Digi-Key; Supplier Part Number 4: 296-14654-6-ND; Input Type: TTL; Operating Temperature Range(C): -40 to 85; ComponentLink1Description: Manufacturer URL; ComponentLink1URL: http://www.ti.com/; ComponentLink2Description: Datasheet; ComponentLink2URL: http://www.ti.com/lit/ds/symlink/sn74abt16500b.pdf
footprint DL0056A_N (SOP, 56-Leads, Body 7.6x18.5mm, Pitch 0.635mm, IPC Medium Density)
footprint DL0056A_M (SOP, 56-Leads, Body 7.6x18.5mm, Pitch 0.635mm, IPC Low Density)
footprint DL0056A_L (SOP, 56-Leads, Body 7.6x18.5mm, Pitch 0.635mm, IPC High Density)
part A pins: 1 OEAB (in), 2 LEAB (in), 3 A1 (io), 5 A2 (io), 6 A3 (io), 8 A4 (io), 9 A5 (io), 10 A6 (io), 12 A7 (io), 13 A8 (io), 14 A9 (io), 15 A10 (io), 16 A11 (io), 17 A12 (io), 19 A13 (io), 20 A14 (io), 21 A15 (io), 23 A16 (io), 24 A17 (io), 26 A18 (io), 27 ~{OEBA} (in), 28 LEBA (in), 30 ~{CLKBA} (in), 31 B18 (io), 33 B17 (io), 34 B16 (io), 36 B15 (io), 37 B14 (io), 38 B13 (io), 40 B12 (io), 41 B11 (io), 42 B10 (io), 43 B9 (io), 44 B8 (io), 45 B7 (io), 47 B6 (io), 48 B5 (io), 49 B4 (io), 51 B3 (io), 52 B2 (io), 54 B1 (io), 55 ~{CLKAB} (in)
part B pins: 4 GND (power), 7 VCC (power), 11 GND (power), 18 GND (power), 22 VCC (power), 25 GND (power), 29 GND (power), 32 GND (power), 35 VCC (power), 39 GND (power), 46 GND (power), 50 VCC (power), 53 GND (power), 56 GND (power)

## SN74ABT16501DGGR
designator U?
18-Bit Universal Bus Transceivers With 3-State Outputs, DGG0056A, LARGE T&R; Generic Part Number: SN74ABT16501; Manufacturer: Texas Instruments; PartNumber: SN74ABT16501DGGR; VCC(Min)(V): 4.5; VCC(Max)(V): 5.5; Output Type: TTL; Logic: True; Static Current: 39.5; ICC @ Nom Voltage(Max)(mA): 76; Bits(#): 18; F @ Nom Voltage(Max)(Mhz): 150; Rating: Catalog; Technology Family: ABT; Voltage(Nom)(V): 5; Schmitt Trigger: No; Output Drive (IOL/IOH)(Max)(mA): -32/64; tpd @ Nom Voltage(Max)(ns): 4; DatasheetVersion: SCBS086C; PackageReference: DGG0056A; Supplier 1: Mouser; Supplier Part Number 1: 595-SN74ABT16501DGGR; Supplier 2: Digi-Key; Supplier Part Number 2: 296-3905-2-ND; Supplier 3: Digi-Key; Supplier Part Number 3: 296-3905-1-ND; Supplier 4: Digi-Key; Supplier Part Number 4: 296-3905-6-ND; Input Type: TTL; Operating Temperature Range(C): -40 to 85; ComponentLink1Description: Manufacturer URL; ComponentLink1URL: http://www.ti.com/; ComponentLink2Description: Datasheet; ComponentLink2URL: http://www.ti.com/lit/ds/symlink/sn74abt16501.pdf
footprint DGG0056A_N (TSSOP, 56-Leads, Body 14.1x6.2mm, Pitch 0.5mm, IPC Medium Density)
footprint DGG0056A_M (TSSOP, 56-Leads, Body 14.1x6.2mm, Pitch 0.5mm, IPC Low Density)
footprint DGG0056A_L (TSSOP, 56-Leads, Body 14.1x6.2mm, Pitch 0.5mm, IPC High Density)
part A pins: 1 OEAB (in), 2 LEAB (in), 3 A1 (io), 5 A2 (io), 6 A3 (io), 8 A4 (io), 9 A5 (io), 10 A6 (io), 12 A7 (io), 13 A8 (io), 14 A9 (io), 15 A10 (io), 16 A11 (io), 17 A12 (io), 19 A13 (io), 20 A14 (io), 21 A15 (io), 23 A16 (io), 24 A17 (io), 26 A18 (io), 27 ~{OEBA} (in), 28 LEBA (in), 30 CLKBA (in), 31 B18 (io), 33 B17 (io), 34 B16 (io), 36 B15 (io), 37 B14 (io), 38 B13 (io), 40 B12 (io), 41 B11 (io), 42 B10 (io), 43 B9 (io), 44 B8 (io), 45 B7 (io), 47 B6 (io), 48 B5 (io), 49 B4 (io), 51 B3 (io), 52 B2 (io), 54 B1 (io), 55 CLKAB (in)
part B pins: 4 GND (power), 7 VCC (power), 11 GND (power), 18 GND (power), 22 VCC (power), 25 GND (power), 29 GND (power), 32 GND (power), 35 VCC (power), 39 GND (power), 46 GND (power), 50 VCC (power), 53 GND (power), 56 GND (power)

## SN74ABT16501DL
designator U?
18-Bit Universal Bus Transceivers With 3-State Outputs, DL0056A, TUBE; Generic Part Number: SN74ABT16501; Manufacturer: Texas Instruments; PartNumber: SN74ABT16501DL; VCC(Min)(V): 4.5; VCC(Max)(V): 5.5; Output Type: TTL; Logic: True; Static Current: 39.5; ICC @ Nom Voltage(Max)(mA): 76; Bits(#): 18; F @ Nom Voltage(Max)(Mhz): 150; Rating: Catalog; Technology Family: ABT; Voltage(Nom)(V): 5; Schmitt Trigger: No; Output Drive (IOL/IOH)(Max)(mA): -32/64; tpd @ Nom Voltage(Max)(ns): 4; DatasheetVersion: SCBS086C; PackageReference: DL0056A; Supplier 1: Mouser; Supplier Part Number 1: 595-SN74ABT16501DL; Supplier 2: Digi-Key; Supplier Part Number 2: SN74ABT16501DL-ND; Input Type: TTL; Operating Temperature Range(C): -40 to 85; ComponentLink1Description: Manufacturer URL; ComponentLink1URL: http://www.ti.com/; ComponentLink2Description: Datasheet; ComponentLink2URL: http://www.ti.com/lit/ds/symlink/sn74abt16501.pdf
footprint DL0056A_N (SOP, 56-Leads, Body 7.6x18.5mm, Pitch 0.635mm, IPC Medium Density)
footprint DL0056A_M (SOP, 56-Leads, Body 7.6x18.5mm, Pitch 0.635mm, IPC Low Density)
footprint DL0056A_L (SOP, 56-Leads, Body 7.6x18.5mm, Pitch 0.635mm, IPC High Density)
part A pins: 1 OEAB (in), 2 LEAB (in), 3 A1 (io), 5 A2 (io), 6 A3 (io), 8 A4 (io), 9 A5 (io), 10 A6 (io), 12 A7 (io), 13 A8 (io), 14 A9 (io), 15 A10 (io), 16 A11 (io), 17 A12 (io), 19 A13 (io), 20 A14 (io), 21 A15 (io), 23 A16 (io), 24 A17 (io), 26 A18 (io), 27 ~{OEBA} (in), 28 LEBA (in), 30 CLKBA (in), 31 B18 (io), 33 B17 (io), 34 B16 (io), 36 B15 (io), 37 B14 (io), 38 B13 (io), 40 B12 (io), 41 B11 (io), 42 B10 (io), 43 B9 (io), 44 B8 (io), 45 B7 (io), 47 B6 (io), 48 B5 (io), 49 B4 (io), 51 B3 (io), 52 B2 (io), 54 B1 (io), 55 CLKAB (in)
part B pins: 4 GND (power), 7 VCC (power), 11 GND (power), 18 GND (power), 22 VCC (power), 25 GND (power), 29 GND (power), 32 GND (power), 35 VCC (power), 39 GND (power), 46 GND (power), 50 VCC (power), 53 GND (power), 56 GND (power)

## SN74ABT16501DLR
designator U?
18-Bit Universal Bus Transceivers With 3-State Outputs, DL0056A, LARGE T&R; Generic Part Number: SN74ABT16501; Manufacturer: Texas Instruments; PartNumber: SN74ABT16501DLR; VCC(Min)(V): 4.5; VCC(Max)(V): 5.5; Output Type: TTL; Logic: True; Static Current: 39.5; ICC @ Nom Voltage(Max)(mA): 76; Bits(#): 18; F @ Nom Voltage(Max)(Mhz): 150; Rating: Catalog; Technology Family: ABT; Voltage(Nom)(V): 5; Schmitt Trigger: No; Output Drive (IOL/IOH)(Max)(mA): -32/64; tpd @ Nom Voltage(Max)(ns): 4; DatasheetVersion: SCBS086C; PackageReference: DL0056A; Supplier 1: Mouser; Supplier Part Number 1: 595-SN74ABT16501DLR; Supplier 2: Digi-Key; Supplier Part Number 2: 296-1031-2-ND; Supplier 3: Digi-Key; Supplier Part Number 3: 296-1031-1-ND; Supplier 4: Digi-Key; Supplier Part Number 4: 296-1031-6-ND; Input Type: TTL; Operating Temperature Range(C): -40 to 85; ComponentLink1Description: Manufacturer URL; ComponentLink1URL: http://www.ti.com/; ComponentLink2Description: Datasheet; ComponentLink2URL: http://www.ti.com/lit/ds/symlink/sn74abt16501.pdf
footprint DL0056A_N (SOP, 56-Leads, Body 7.6x18.5mm, Pitch 0.635mm, IPC Medium Density)
footprint DL0056A_M (SOP, 56-Leads, Body 7.6x18.5mm, Pitch 0.635mm, IPC Low Density)
footprint DL0056A_L (SOP, 56-Leads, Body 7.6x18.5mm, Pitch 0.635mm, IPC High Density)
part A pins: 1 OEAB (in), 2 LEAB (in), 3 A1 (io), 5 A2 (io), 6 A3 (io), 8 A4 (io), 9 A5 (io), 10 A6 (io), 12 A7 (io), 13 A8 (io), 14 A9 (io), 15 A10 (io), 16 A11 (io), 17 A12 (io), 19 A13 (io), 20 A14 (io), 21 A15 (io), 23 A16 (io), 24 A17 (io), 26 A18 (io), 27 ~{OEBA} (in), 28 LEBA (in), 30 CLKBA (in), 31 B18 (io), 33 B17 (io), 34 B16 (io), 36 B15 (io), 37 B14 (io), 38 B13 (io), 40 B12 (io), 41 B11 (io), 42 B10 (io), 43 B9 (io), 44 B8 (io), 45 B7 (io), 47 B6 (io), 48 B5 (io), 49 B4 (io), 51 B3 (io), 52 B2 (io), 54 B1 (io), 55 CLKAB (in)
part B pins: 4 GND (power), 7 VCC (power), 11 GND (power), 18 GND (power), 22 VCC (power), 25 GND (power), 29 GND (power), 32 GND (power), 35 VCC (power), 39 GND (power), 46 GND (power), 50 VCC (power), 53 GND (power), 56 GND (power)

## SN74ABT16601DGGR
designator U?
18-Bit Universal Bus Transceivers With 3-State Outputs, DGG0056A, LARGE T&R; Generic Part Number: SN74ABT16601; Manufacturer: Texas Instruments; PartNumber: SN74ABT16601DGGR; VCC(Min)(V): 4.5; VCC(Max)(V): 5.5; Output Type: TTL; Logic: True; Static Current: 19.5; ICC @ Nom Voltage(Max)(mA): 36; Bits(#): 18; F @ Nom Voltage(Max)(Mhz): 150; Rating: Catalog; Technology Family: ABT; Voltage(Nom)(V): 5; Schmitt Trigger: No; Output Drive (IOL/IOH)(Max)(mA): -32/64; tpd @ Nom Voltage(Max)(ns): 5.1; DatasheetVersion: SCBS210C; PackageReference: DGG0056A; Supplier 1: Mouser; Supplier Part Number 1: 595-SN74ABT16601DGGR; Supplier 2: Digi-Key; Supplier Part Number 2: 296-1034-2-ND; Supplier 3: Digi-Key; Supplier Part Number 3: 296-1034-1-ND; Supplier 4: Digi-Key; Supplier Part Number 4: 296-1034-6-ND; Input Type: TTL; Operating Temperature Range(C): -40 to 85; ComponentLink1Description: Manufacturer URL; ComponentLink1URL: http://www.ti.com/; ComponentLink2Description: Datasheet; ComponentLink2URL: http://www.ti.com/lit/ds/symlink/sn74abt16601.pdf
footprint DGG0056A_N (TSSOP, 56-Leads, Body 14.1x6.2mm, Pitch 0.5mm, IPC Medium Density)
footprint DGG0056A_M (TSSOP, 56-Leads, Body 14.1x6.2mm, Pitch 0.5mm, IPC Low Density)
footprint DGG0056A_L (TSSOP, 56-Leads, Body 14.1x6.2mm, Pitch 0.5mm, IPC High Density)
part A pins: 1 ~{OEAB} (in), 2 LEAB (in), 3 A1 (io), 5 A2 (io), 6 A3 (io), 8 A4 (io), 9 A5 (io), 10 A6 (io), 12 A7 (io), 13 A8 (io), 14 A9 (io), 15 A10 (io), 16 A11 (io), 17 A12 (io), 19 A13 (io), 20 A14 (io), 21 A15 (io), 23 A16 (io), 24 A17 (io), 26 A18 (io), 27 ~{OEBA} (in), 28 LEBA (in), 29 ~{CLKENBA} (in), 30 CLKBA (in), 31 B18 (io), 33 B17 (io), 34 B16 (io), 36 B15 (io), 37 B14 (io), 38 B13 (io), 40 B12 (io), 41 B11 (io), 42 B10 (io), 43 B9 (io), 44 B8 (io), 45 B7 (io), 47 B6 (io), 48 B5 (io), 49 B4 (io), 51 B3 (io), 52 B2 (io), 54 B1 (io), 55 CLKAB (in), 56 ~{CLKENAB} (in)
part B pins: 4 GND (power), 7 VCC (power), 11 GND (power), 18 GND (power), 22 VCC (power), 25 GND (power), 32 GND (power), 35 VCC (power), 39 GND (power), 46 GND (power), 50 VCC (power), 53 GND (power)

## SN74ABT16601DL
designator U?
18-Bit Universal Bus Transceivers With 3-State Outputs, DL0056A, TUBE; Generic Part Number: SN74ABT16601; Manufacturer: Texas Instruments; PartNumber: SN74ABT16601DL; VCC(Min)(V): 4.5; VCC(Max)(V): 5.5; Output Type: TTL; Logic: True; Static Current: 19.5; ICC @ Nom Voltage(Max)(mA): 36; Bits(#): 18; F @ Nom Voltage(Max)(Mhz): 150; Rating: Catalog; Technology Family: ABT; Voltage(Nom)(V): 5; Schmitt Trigger: No; Output Drive (IOL/IOH)(Max)(mA): -32/64; tpd @ Nom Voltage(Max)(ns): 5.1; DatasheetVersion: SCBS210C; PackageReference: DL0056A; Supplier 1: Mouser; Supplier Part Number 1: 595-SN74ABT16601DL; Supplier 2: Digi-Key; Supplier Part Number 2: 296-3913-5-ND; Input Type: TTL; Operating Temperature Range(C): -40 to 85; ComponentLink1Description: Manufacturer URL; ComponentLink1URL: http://www.ti.com/; ComponentLink2Description: Datasheet; ComponentLink2URL: http://www.ti.com/lit/ds/symlink/sn74abt16601.pdf
footprint DL0056A_N (SOP, 56-Leads, Body 7.6x18.5mm, Pitch 0.635mm, IPC Medium Density)
footprint DL0056A_M (SOP, 56-Leads, Body 7.6x18.5mm, Pitch 0.635mm, IPC Low Density)
footprint DL0056A_L (SOP, 56-Leads, Body 7.6x18.5mm, Pitch 0.635mm, IPC High Density)
part A pins: 1 ~{OEAB} (in), 2 LEAB (in), 3 A1 (io), 5 A2 (io), 6 A3 (io), 8 A4 (io), 9 A5 (io), 10 A6 (io), 12 A7 (io), 13 A8 (io), 14 A9 (io), 15 A10 (io), 16 A11 (io), 17 A12 (io), 19 A13 (io), 20 A14 (io), 21 A15 (io), 23 A16 (io), 24 A17 (io), 26 A18 (io), 27 ~{OEBA} (in), 28 LEBA (in), 29 ~{CLKENBA} (in), 30 CLKBA (in), 31 B18 (io), 33 B17 (io), 34 B16 (io), 36 B15 (io), 37 B14 (io), 38 B13 (io), 40 B12 (io), 41 B11 (io), 42 B10 (io), 43 B9 (io), 44 B8 (io), 45 B7 (io), 47 B6 (io), 48 B5 (io), 49 B4 (io), 51 B3 (io), 52 B2 (io), 54 B1 (io), 55 CLKAB (in), 56 ~{CLKENAB} (in)
part B pins: 4 GND (power), 7 VCC (power), 11 GND (power), 18 GND (power), 22 VCC (power), 25 GND (power), 32 GND (power), 35 VCC (power), 39 GND (power), 46 GND (power), 50 VCC (power), 53 GND (power)

## SN74ABT16601DLR
designator U?
18-Bit Universal Bus Transceivers With 3-State Outputs, DL0056A, LARGE T&R; Generic Part Number: SN74ABT16601; Manufacturer: Texas Instruments; PartNumber: SN74ABT16601DLR; VCC(Min)(V): 4.5; VCC(Max)(V): 5.5; Output Type: TTL; Logic: True; Static Current: 19.5; ICC @ Nom Voltage(Max)(mA): 36; Bits(#): 18; F @ Nom Voltage(Max)(Mhz): 150; Rating: Catalog; Technology Family: ABT; Voltage(Nom)(V): 5; Schmitt Trigger: No; Output Drive (IOL/IOH)(Max)(mA): -32/64; tpd @ Nom Voltage(Max)(ns): 5.1; DatasheetVersion: SCBS210C; PackageReference: DL0056A; Supplier 1: Mouser; Supplier Part Number 1: 595-SN74ABT16601DLR; Supplier 2: Digi-Key; Supplier Part Number 2: 296-14656-2-ND; Supplier 3: Digi-Key; Supplier Part Number 3: 296-14656-1-ND; Supplier 4: Digi-Key; Supplier Part Number 4: 296-14656-6-ND; Input Type: TTL; Operating Temperature Range(C): -40 to 85; ComponentLink1Description: Manufacturer URL; ComponentLink1URL: http://www.ti.com/; ComponentLink2Description: Datasheet; ComponentLink2URL: http://www.ti.com/lit/ds/symlink/sn74abt16601.pdf
footprint DL0056A_N (SOP, 56-Leads, Body 7.6x18.5mm, Pitch 0.635mm, IPC Medium Density)
footprint DL0056A_M (SOP, 56-Leads, Body 7.6x18.5mm, Pitch 0.635mm, IPC Low Density)
footprint DL0056A_L (SOP, 56-Leads, Body 7.6x18.5mm, Pitch 0.635mm, IPC High Density)
part A pins: 1 ~{OEAB} (in), 2 LEAB (in), 3 A1 (io), 5 A2 (io), 6 A3 (io), 8 A4 (io), 9 A5 (io), 10 A6 (io), 12 A7 (io), 13 A8 (io), 14 A9 (io), 15 A10 (io), 16 A11 (io), 17 A12 (io), 19 A13 (io), 20 A14 (io), 21 A15 (io), 23 A16 (io), 24 A17 (io), 26 A18 (io), 27 ~{OEBA} (in), 28 LEBA (in), 29 ~{CLKENBA} (in), 30 CLKBA (in), 31 B18 (io), 33 B17 (io), 34 B16 (io), 36 B15 (io), 37 B14 (io), 38 B13 (io), 40 B12 (io), 41 B11 (io), 42 B10 (io), 43 B9 (io), 44 B8 (io), 45 B7 (io), 47 B6 (io), 48 B5 (io), 49 B4 (io), 51 B3 (io), 52 B2 (io), 54 B1 (io), 55 CLKAB (in), 56 ~{CLKENAB} (in)
part B pins: 4 GND (power), 7 VCC (power), 11 GND (power), 18 GND (power), 22 VCC (power), 25 GND (power), 32 GND (power), 35 VCC (power), 39 GND (power), 46 GND (power), 50 VCC (power), 53 GND (power)

## SN74ABT162500DL
designator U?
18-Bit Universal Bus Transceivers With 3-State Outputs, DL0056A, TUBE; Generic Part Number: SN74ABT162500; Manufacturer: Texas Instruments; PartNumber: SN74ABT162500DL; VCC(Min)(V): 4.5; VCC(Max)(V): 5.5; Output Type: TTL; Logic: True; Static Current: 19.5; ICC @ Nom Voltage(Max)(mA): 36; Bits(#): 18; F @ Nom Voltage(Max)(Mhz): 150; Rating: Catalog; Technology Family: ABT; Voltage(Nom)(V): 5; Schmitt Trigger: No; Output Drive (IOL/IOH)(Max)(mA): -32/64; tpd @ Nom Voltage(Max)(ns): 5.7; DatasheetVersion: SCBS242E; PackageReference: DL0056A; Supplier 1: Mouser; Supplier Part Number 1: 595-SN74ABT162500DL; Supplier 2: Digi-Key; Supplier Part Number 2: 296-3890-5-ND; Input Type: TTL; Operating Temperature Range(C): -40 to 85; ComponentLink1Description: Manufacturer URL; ComponentLink1URL: http://www.ti.com/; ComponentLink2Description: Datasheet; ComponentLink2URL: http://www.ti.com/lit/ds/symlink/sn74abt162500.pdf
footprint DL0056A_N (SOP, 56-Leads, Body 7.6x18.5mm, Pitch 0.635mm, IPC Medium Density)
footprint DL0056A_M (SOP, 56-Leads, Body 7.6x18.5mm, Pitch 0.635mm, IPC Low Density)
footprint DL0056A_L (SOP, 56-Leads, Body 7.6x18.5mm, Pitch 0.635mm, IPC High Density)
part A pins: 1 OEAB (in), 2 LEAB (in), 3 A1 (io), 5 A2 (io), 6 A3 (io), 8 A4 (io), 9 A5 (io), 10 A6 (io), 12 A7 (io), 13 A8 (io), 14 A9 (io), 15 A10 (io), 16 A11 (io), 17 A12 (io), 19 A13 (io), 20 A14 (io), 21 A15 (io), 23 A16 (io), 24 A17 (io), 26 A18 (io), 27 ~{OEBA} (in), 28 LEBA (in), 30 ~{CLKBA} (in), 31 B18 (io), 33 B17 (io), 34 B16 (io), 36 B15 (io), 37 B14 (io), 38 B13 (io), 40 B12 (io), 41 B11 (io), 42 B10 (io), 43 B9 (io), 44 B8 (io), 45 B7 (io), 47 B6 (io), 48 B5 (io), 49 B4 (io), 51 B3 (io), 52 B2 (io), 54 B1 (io), 55 ~{CLKAB} (in)
part B pins: 4 GND (power), 7 VCC (power), 11 GND (power), 18 GND (power), 22 VCC (power), 25 GND (power), 29 GND (power), 32 GND (power), 35 VCC (power), 39 GND (power), 46 GND (power), 50 VCC (power), 53 GND (power), 56 GND (power)

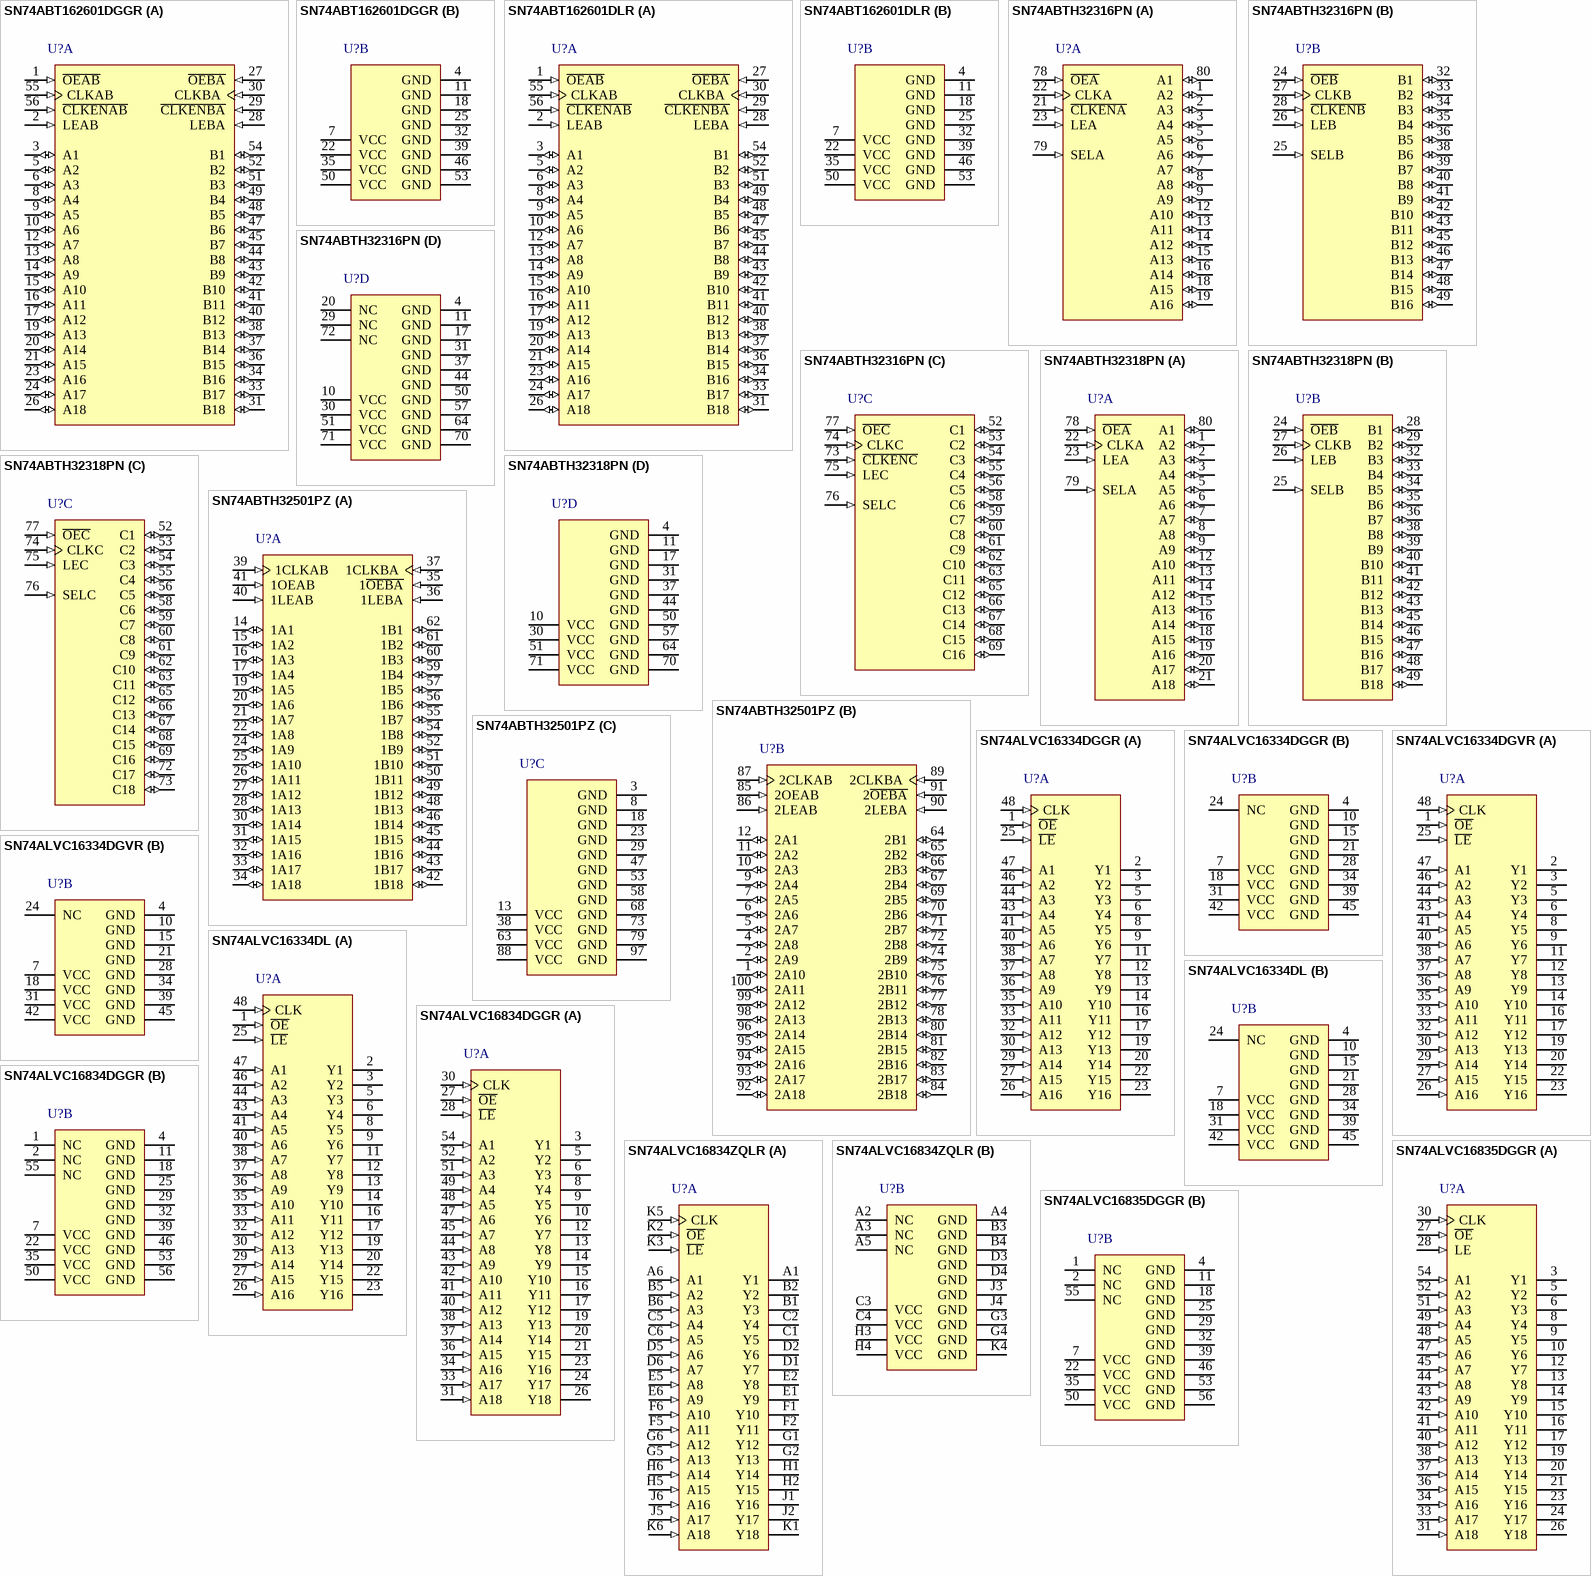
[diagram p2: symbols SN74ABT162601DGGR to SN74ALVC16835DGGR]

## SN74ABT162601DGGR
designator U?
18-Bit Universal Bus Transceivers With 3-State Outputs, DGG0056A, LARGE T&R; Generic Part Number: SN74ABT162601; Manufacturer: Texas Instruments; PartNumber: SN74ABT162601DGGR; VCC(Min)(V): 4.5; VCC(Max)(V): 5.5; Output Type: TTL; Logic: True; Static Current: 19.5; ICC @ Nom Voltage(Max)(mA): 36; Bits(#): 18; F @ Nom Voltage(Max)(Mhz): 150; Rating: Catalog; Technology Family: ABT; Voltage(Nom)(V): 5; Schmitt Trigger: No; Output Drive (IOL/IOH)(Max)(mA): -32/64; tpd @ Nom Voltage(Max)(ns): 5.7; DatasheetVersion: SCBS247G; PackageReference: DGG0056A; Supplier 1: Mouser; Supplier Part Number 1: 595-SN74ABT162601DGG; Supplier 2: Digi-Key; Supplier Part Number 2: 296-3892-2-ND; Supplier 3: Digi-Key; Supplier Part Number 3: 296-3892-1-ND; Supplier 4: Digi-Key; Supplier Part Number 4: 296-3892-6-ND; Input Type: TTL; Operating Temperature Range(C): -40 to 85; ComponentLink1Description: Manufacturer URL; ComponentLink1URL: http://www.ti.com/; ComponentLink2Description: Datasheet; ComponentLink2URL: http://www.ti.com/lit/ds/symlink/sn74abt162601.pdf
footprint DGG0056A_N (TSSOP, 56-Leads, Body 14.1x6.2mm, Pitch 0.5mm, IPC Medium Density)
footprint DGG0056A_M (TSSOP, 56-Leads, Body 14.1x6.2mm, Pitch 0.5mm, IPC Low Density)
footprint DGG0056A_L (TSSOP, 56-Leads, Body 14.1x6.2mm, Pitch 0.5mm, IPC High Density)
part A pins: 1 ~{OEAB} (in), 2 LEAB (in), 3 A1 (io), 5 A2 (io), 6 A3 (io), 8 A4 (io), 9 A5 (io), 10 A6 (io), 12 A7 (io), 13 A8 (io), 14 A9 (io), 15 A10 (io), 16 A11 (io), 17 A12 (io), 19 A13 (io), 20 A14 (io), 21 A15 (io), 23 A16 (io), 24 A17 (io), 26 A18 (io), 27 ~{OEBA} (in), 28 LEBA (in), 29 ~{CLKENBA} (in), 30 CLKBA (in), 31 B18 (io), 33 B17 (io), 34 B16 (io), 36 B15 (io), 37 B14 (io), 38 B13 (io), 40 B12 (io), 41 B11 (io), 42 B10 (io), 43 B9 (io), 44 B8 (io), 45 B7 (io), 47 B6 (io), 48 B5 (io), 49 B4 (io), 51 B3 (io), 52 B2 (io), 54 B1 (io), 55 CLKAB (in), 56 ~{CLKENAB} (in)
part B pins: 4 GND (power), 7 VCC (power), 11 GND (power), 18 GND (power), 22 VCC (power), 25 GND (power), 32 GND (power), 35 VCC (power), 39 GND (power), 46 GND (power), 50 VCC (power), 53 GND (power)